# Altium schematic symbol library golgi_bot_ESP_V2.02.SCHLIB: 20 symbols
Pins are listed as number, name and electrical type; pins without a type are passive.

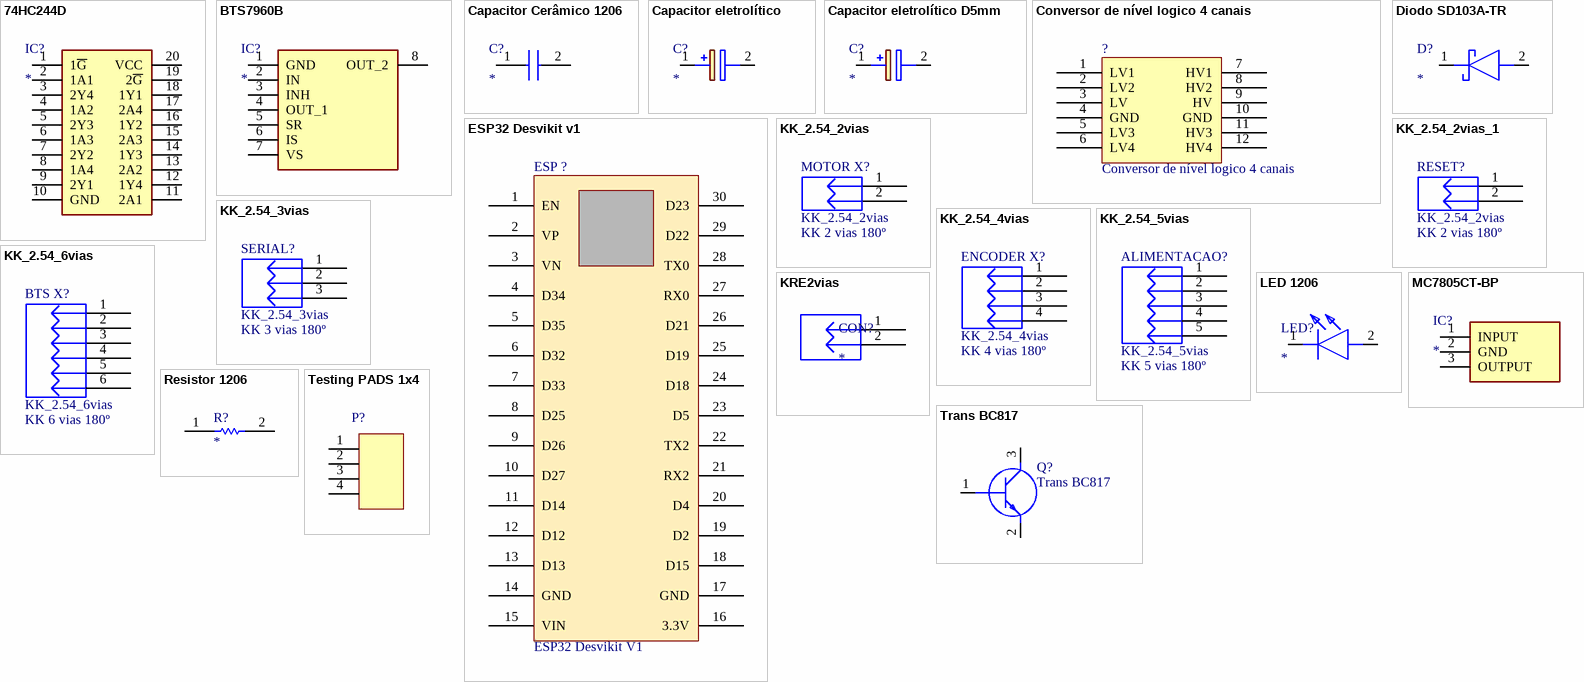
[diagram p0: symbols 74HC244D to Trans BC817]

## 74HC244D
designator IC?
Integrated Circuit; Manufacturer_Name: Toshiba; Manufacturer_Part_Number: 74HC244D; Datasheet Link: https://www.arrow.com/en/products/74hc244d/toshiba; Height: 2.5mm; Mouser Part Number: 757-74HC244D; Mouser Price/Stock: https://www.mouser.co.uk/ProductDetail/Toshiba/74HC244D?qs=7EBvPakHacWwVm6mPM9mPg%3D%3D; Arrow Part Number: 74HC244D; Arrow Price/Stock: https://www.arrow.com/en/products/74hc244d/toshiba?region=nac
footprint SOIC127P1030X250-20N
pins: 1 1~{G}, 2 1A1, 3 2Y4, 4 1A2, 5 2Y3, 6 1A3, 7 2Y2, 8 1A4, 9 2Y1, 10 GND, 11 2A1, 12 1Y4, 13 2A2, 14 1Y3, 15 2A3, 16 1Y2, 17 2A4, 18 1Y1, 19 2~{G}, 20 VCC

## BTS7960B
designator IC?
Integrated Circuit; Manufacturer_Name: Rochester Electronics; Manufacturer_Part_Number: BTS7960B; Height: 4.4mm
footprint BTS7960B
pins: 1 GND, 2 IN, 3 INH, 4 OUT_1, 5 SR, 6 IS, 7 VS, 8 OUT_2

## Capacitor Cerâmico 1206
designator C?
Capacitor; Manufacturer_Name: TDK; Manufacturer_Part_Number: C3216X5R0J226M160AA; Datasheet Link: https://product.tdk.com/info/en/catalog/datasheets/mlcc_commercial_midvoltage_en.pdf; Height: 1.8mm; Mouser Part Number: 810-C3216X5R0J226M-6; Mouser Price/Stock: https://www.mouser.com/Search/Refine.aspx?Keyword=810-C3216X5R0J226M-6
footprint CAPC3216X180N
pins: 1, 2

## Capacitor eletrolítico
designator C?
capacitor 330uf 50V; Manufacturer_Name: Panasonic; Manufacturer_Part_Number: EEU-TA1H331S; Description: Aluminum electrolytic capacitors,330uF,50V; Datasheet Link: http://industrial.panasonic.com/cdbs/www-data/pdf/RDF0000/ABA0000C1212.pdf; Height: 16.5mm
footprint CAPPRD750W85D1600H1650
pins: 1 +, 2 -

## Capacitor eletrolítico D5mm
designator C?
Capacitor Polarised; Manufacturer_Name: Panasonic; Manufacturer_Part_Number: ECA-0JM221; Datasheet Link: http://industrial.panasonic.com/cdbs/www-data/pdf/RDF0000/ABA0000C1218.pdf; Height: 12mm; Mouser Part Number: 667-ECA-0JM221; Mouser Price/Stock: https://www.mouser.com/Search/Refine.aspx?Keyword=667-ECA-0JM221; Arrow Part Number: ECA-0JM221; Arrow Price/Stock: https://www.arrow.com/en/products/eca-0jm221/panasonic
footprint CAPPRD200W55D500H1200
pins: 1 +, 2 -

## Conversor de nível logico 4 canais
designator ?
footprint Conversor de nível lógico 4 canais (3V3 para 5V)
pins: 1 LV1, 2 LV2, 3 LV, 4 GND, 5 LV3, 6 LV4, 7 HV1, 8 HV2, 9 HV, 10 GND, 11 HV3, 12 HV4

## Diodo SD103A-TR
designator D?
Schottky Diode; Manufacturer_Name: Vishay; Manufacturer_Part_Number: SD103A-TR; Datasheet Link: https://componentsearchengine.com/Datasheets/5/SD103A-TR.pdf; Mouser Part Number: 625-SD103A; Mouser Price/Stock: https://www.mouser.co.uk/ProductDetail/Vishay-Semiconductors/SD103A-TR?qs=RwahMLkpD2urFD%2FzZdGOBw%3D%3D; Arrow Part Number: SD103A-TR; Arrow Price/Stock: https://www.arrow.com/en/products/sd103a-tr/vishay?region=nac
footprint DIOAD950W60L350D150
pins: 1 K, 2 A

## ESP32 Desvikit v1
designator ESP ?, comment value ESP32 Desvikit V1  (hidden comment: microcontrolador)
microcontrolador com moculo bluethoth e wifi
footprint ESP32_Desvikit_v1
pins: 1 EN, 2 VP, 3 VN, 4 D34, 5 D35, 6 D32, 7 D33, 8 D25, 9 D26, 10 D27, 11 D14, 12 D12, 13 D13, 14 GND, 15 VIN, 16 3.3V, 17 GND, 18 D15, 19 D2, 20 D4, 21 RX2, 22 TX2, 23 D5, 24 D18, 25 D19, 26 D21, 27 RX0, 28 TX0, 29 D22, 30 D23

## KK_2.54_2vias
designator MOTOR X?  Valor: KK 2 vias 180º
Conector KK 2.54mm 2 vias; Descrição: Conector KK 3 vias com passo 2.54mm; Encapsulamento: PTH - 180º; Modelo: 2 vias - 180º; Marca: *; Observação: *
footprint KK_2VIAS_180º
pins: 1, 2

## KK_2.54_2vias_1
designator RESET?, comment KK_2.54_2vias  Valor: KK 2 vias 180º
Conector KK 2.54mm 2 vias; Descrição: Conector KK 3 vias com passo 2.54mm; Encapsulamento: PTH - 180º; Modelo: 2 vias - 180º; Marca: *; Observação: *
footprint KK_2VIAS_180º
pins: 1, 2

## KK_2.54_3vias
designator SERIAL?  Valor: KK 3 vias 180º
Conector KK 2.54mm 3 vias; Descrição: Conector KK 3 vias com passo 2.54mm; Encapsulamento: PTH - 180º; Modelo: 3 vias - 180º; Marca: *; Observação: *
footprint KK_3vias_180º
pins: 1, 2, 3

## KK_2.54_4vias
designator ENCODER X?  Valor: KK 4 vias 180º
Conector KK 2.54mm 4 vias; Descrição: Conector KK 3 vias com passo 2.54mm; Encapsulamento: PTH - 180º; Modelo: 3 vias - 180º; Marca: *; Observação: *
footprint KK_4vias_180°
pins: 1, 2, 3, 4

## KK_2.54_5vias
designator ALIMENTACAO?  Valor: KK 5 vias 180º
Conector KK 2.54mm 5 vias; Descrição: Conector KK 3 vias com passo 2.54mm; Encapsulamento: PTH - 180º; Modelo: 3 vias - 180º; Marca: *; Observação: *
footprint KK_5vias_180°
pins: 1, 2, 3, 4, 5

## KK_2.54_6vias
designator BTS X?  Valor: KK 6 vias 180º
Conector KK 2.54mm 6 vias; Descrição: Conector KK 3 vias com passo 2.54mm; Encapsulamento: PTH - 180º; Modelo: 3 vias - 180º; Marca: *; Observação: *
footprint KK_6vias_180°
pins: 1, 2, 3, 4, 5, 6

## KRE2vias
designator CON?
Conector 2 vias; Descrição: Conector KRE 2 vias 180º; Encapsulamento: PTH - 180º; Modelo: 2 vias - 180º; Marca: *; Observação: *
footprint KRE2-2vias
pins: 1, 2

## LED 1206
designator LED?
LED; Manufacturer_Name: Wurth Elektronik; Manufacturer_Part_Number: 150120BS75000; Datasheet Link: https://katalog.we-online.de/led/datasheet/150120BS75000.pdf; Height: 0.78mm; Mouser Part Number: 710-150120BS75000; Mouser Price/Stock: https://www.mouser.co.uk/ProductDetail/Wurth-Elektronik/150120BS75000?qs=LlUlMxKIyB1WGHUNBglvng%3D%3D
footprint LEDC3214X78N
pins: 1 K, 2 A

## MC7805CT-BP
designator IC?
Integrated Circuit; Manufacturer_Name: Micro Commercial Components (MCC); Manufacturer_Part_Number: MC7805CT-BP; Datasheet Link: https://componentsearchengine.com/Datasheets/2/MC7805CT-BP.pdf; Height: 4.82mm; Mouser Part Number: 833-MC7805CT-BP; Mouser Price/Stock: https://www.mouser.co.uk/ProductDetail/Micro-Commercial-Components-MCC/MC7805CT-BP?qs=SdqRYZZ9IxChYPR4%2FIgmYA%3D%3D; Arrow Part Number: MC7805CT-BP; Arrow Price/Stock: https://www.arrow.com/en/products/mc7805ct-bp/micro-commercial-components
footprint TO255P460X1020X2008-3P
pins: 1 INPUT, 2 GND, 3 OUTPUT

## Resistor 1206
designator R?
Manufacturer_Name: Vishay; Manufacturer_Part_Number: CRCW12064K70FKEA; Datasheet Link: http://docs-emea.rs-online.com/webdocs/13ec/0900766b813ecc08.pdf; Height: 0.6mm; Mouser Part Number: 71-CRCW1206-4.7K-E3; Mouser Price/Stock: https://www.mouser.co.uk/ProductDetail/Vishay-Dale/CRCW12064K70FKEA?qs=1vm4qhDHCvlKJmatsKzyFQ%3D%3D; Arrow Part Number: CRCW12064K70FKEA; Arrow Price/Stock: https://www.arrow.com/en/products/crcw12064k70fkea/vishay
footprint RESC3216X60N
pins: 1, 2

## Testing PADS 1x4
designator P?  (value not drawn)
Headers & Wire Housings 40Pin 2mm Spacing Single Row Hdrs, 5pc; Manufacturer: Cromax; Mounting Angle: Vertical; Number of Positions: 40 Position; Supplier 1: -; Manufacturer Part Number: -; RoHS: RoHS Compliant; Category: Headers & Wire Housings; Stock 1: 14; Pricing 1: 1=1.60, 2=0.80 (BRL); Accessory Type: -; Contact Plating: Gold; Contact Type: -; Number of Rows: 1 Row; Product: Headers; Termination Style: Through Hole; Type: Breakaway; Brand: Cromax; Mounting Style: Straight Pin; Pitch: 2 mm; Row Spacing: -; Contact Gender: Pin (Female); Product Category: Accessories; RoHS - Mouser: Y; Minimum Order Quantity: 1; Reeling: False; ComponentLink1URL: -; ComponentLink1Description: -; Supplier Part Number 1: -
footprint Testing PADS 1x4
pins: 1, 2, 3, 4

## Trans BC817
designator Q?
Transistor BJT NPN BC817-25-7-F; Manufacturer_Name: Diodes Inc.; Datasheet Link: https://www.diodes.com/assets/Datasheets/ds11107.pdf; Height: 1.1mm; Manufacturer_Part_Number: BC817-25-7-F; Mouser Part Number: 621-BC817-25-7-F; Mouser Price/Stock: https://www.mouser.co.uk/ProductDetail/Diodes-Incorporated/BC817-25-7-F?qs=rGAXPo9uwV0jK0EyLZnqOw%3D%3D; Arrow Part Number: BC817-25-7-F; Arrow Price/Stock: https://www.arrow.com/en/products/bc817-25-7-f/diodes-incorporated
footprint SOT96P240X110-3N
pins: 1 B, 2 E, 3 C